# EAGLE library part STM32F303XRX (library Fugu_LSI)
ARM®Cortex®-M4 32bit MCU
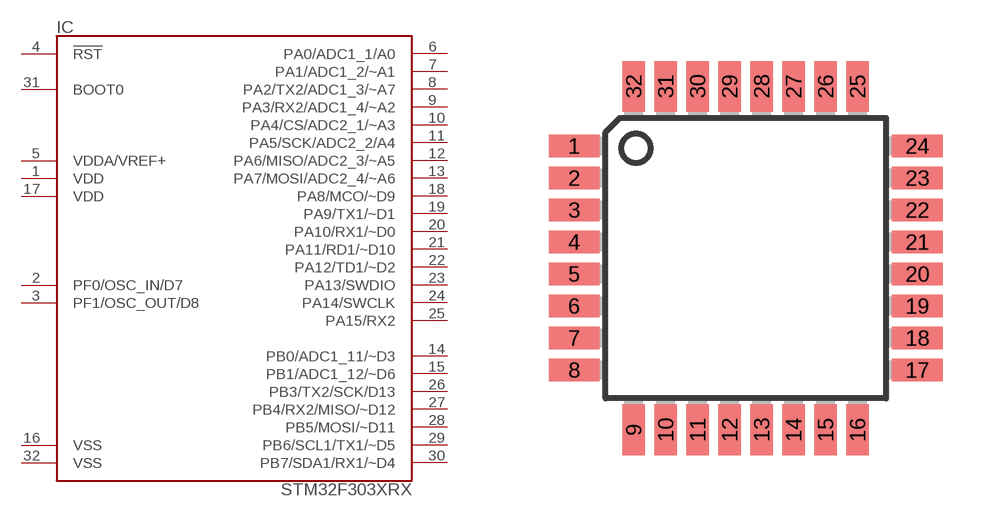
[diagram p12: symbol with the pads of TQFP32; footprint TQFP32]

Designator prefix IC

## STM32F303XRX  [TQFP32]
1  VDD
2  PF0/OSC_IN/D7
3  PF1/OSC_OUT/D8
4  !RST
5  VDDA/VREF+
6  PA0/ADC1_1/A0
7  PA1/ADC1_2/~A1
8  PA2/TX2/ADC1_3/~A7
9  PA3/RX2/ADC1_4/~A2
10  PA4/CS/ADC2_1/~A3
11  PA5/SCK/ADC2_2/A4
12  PA6/MISO/ADC2_3/~A5
13  PA7/MOSI/ADC2_4/~A6
14  PB0/ADC1_11/~D3
15  PB1/ADC1_12/~D6
16  VSS
17  VDD
18  PA8/MCO/~D9
19  PA9/TX1/~D1
20  PA10/RX1/~D0
21  PA11/RD1/~D10
22  PA12/TD1/~D2
23  PA13/SWDIO
24  PA14/SWCLK
25  PA15/RX2
26  PB3/TX2/SCK/D13
27  PB4/RX2/MISO/~D12
28  PB5/MOSI/~D11
29  PB6/SCL1/TX1/~D5
30  PB7/SDA1/RX1/~D4
31  BOOT0
32  VSS

## Footprint TQFP32 (pad centres in mm)
smd 1.27 x 0.559: 1 -4.293,2.8; 2 -4.293,2; 3 -4.293,1.2; 4 -4.293,0.4; 5 -4.293,-0.4; 6 -4.293,-1.2; 7 -4.293,-2; 8 -4.293,-2.8; 17 4.293,-2.8; 18 4.293,-2; 19 4.293,-1.2; 20 4.293,-0.4; 21 4.293,0.4; 22 4.293,1.2; 23 4.293,2; 24 4.293,2.8
smd 0.559 x 1.27: 9 -2.8,-4.293; 10 -2,-4.293; 11 -1.2,-4.293; 12 -0.4,-4.293; 13 0.4,-4.293; 14 1.2,-4.293; 15 2,-4.293; 16 2.8,-4.293; 25 2.8,4.293; 26 2,4.293; 27 1.2,4.293; 28 0.4,4.293; 29 -0.4,4.293; 30 -1.2,4.293; 31 -2,4.293; 32 -2.8,4.293